# EAGLE library part MACETECH_PINHD-1X8 (library RGBShadesControllerV30)
PIN HEADER
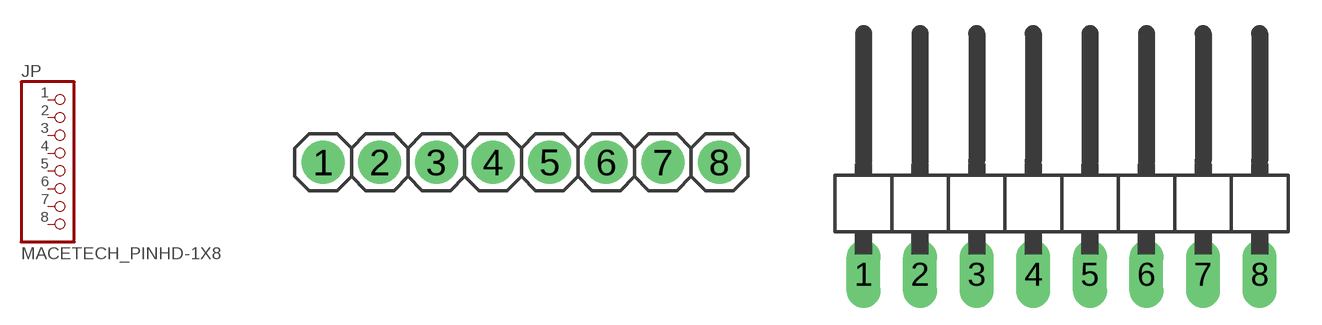
[diagram p3: symbol with the pads of MACETECH_1X08; footprints MACETECH_1X08, MACETECH_1X08/90]

Designator prefix JP

## MACETECH_PINHD-1X8  [MACETECH_1X08]
1  1  pas
2  2  pas
3  3  pas
4  4  pas
5  5  pas
6  6  pas
7  7  pas
8  8  pas

## MACETECH_PINHD-1X8/90  [MACETECH_1X08/90]
Pads as for MACETECH_1X08

## Footprint MACETECH_1X08 (pad centres in mm)
PIN HEADER
drill 1.016 pad 1.93: 1 -8.89,0; 2 -6.35,0; 3 -3.81,0; 4 -1.27,0; 5 1.27,0; 6 3.81,0; 7 6.35,0; 8 8.89,0

## Footprint MACETECH_1X08/90 (pad centres in mm)
PIN HEADER
drill 1.016 long: 1 -8.89,-3.81; 2 -6.35,-3.81; 3 -3.81,-3.81; 4 -1.27,-3.81; 5 1.27,-3.81; 6 3.81,-3.81; 7 6.35,-3.81; 8 8.89,-3.81